# Altium schematic symbol library res_single.Schlib: 1 symbol
Pins are listed as number, name and electrical type; pins without a type are passive.

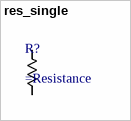
[diagram p0: symbol res_single]

## res_single
designator R?
pins: 1, 2